# Altium footprint library MAX232Lib.PcbLib: 2 footprints
Each footprint in its own frame and in the unit in brackets; x right, y up, seen from the top. Pads: shape width x height; smd on the part's side, far side on the other; paste and mask are expansions set on the pad; w line width, h text height; cw(c..) or ccw(c..) is an arc to the next point about the centre after c.
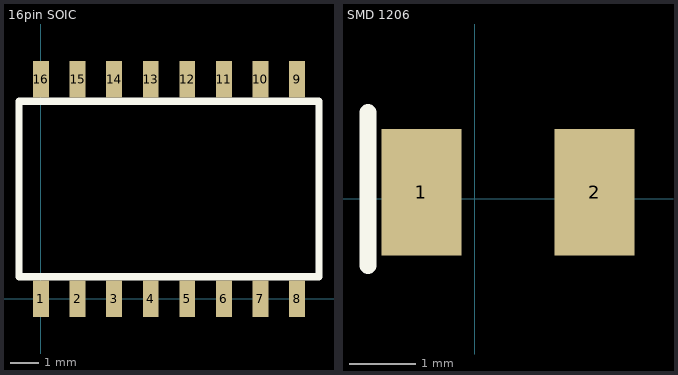
[diagram p0: the footprints below, top view; thin cyan lines are the x and y axes]

## 16pin SOIC [mm] "16pin SOIC"
height 3
pads (16):
  rect 0.55x1.27 smd: 1(0,0) 2(1.27,0) 3(2.54,0) 4(3.81,0) 5(5.08,0) 6(6.35,0) 7(7.62,0) 8(8.89,0) 9(8.89,7.62) 10(7.62,7.62) 11(6.35,7.62) 12(5.08,7.62) 13(3.81,7.62) 14(2.54,7.62) 15(1.27,7.62) 16(0,7.62)
Top Overlay:
  lines w0.254: -0.762,0.762 -0.762,6.858 9.652,6.858 9.652,0.762 -0.762,0.762

## SMD 1206 [mm] "SMD 1206"
height 0.77
pads (2):
  rect 1.2x1.9 smd: 1(-0.8,0.1) 2(1.8,0.1)
Top Overlay:
  lines w0.254: -1.6,-1 -1.6,1.3